# EAGLE library part PORT_EXPANSION_64_CONN (library commodore)
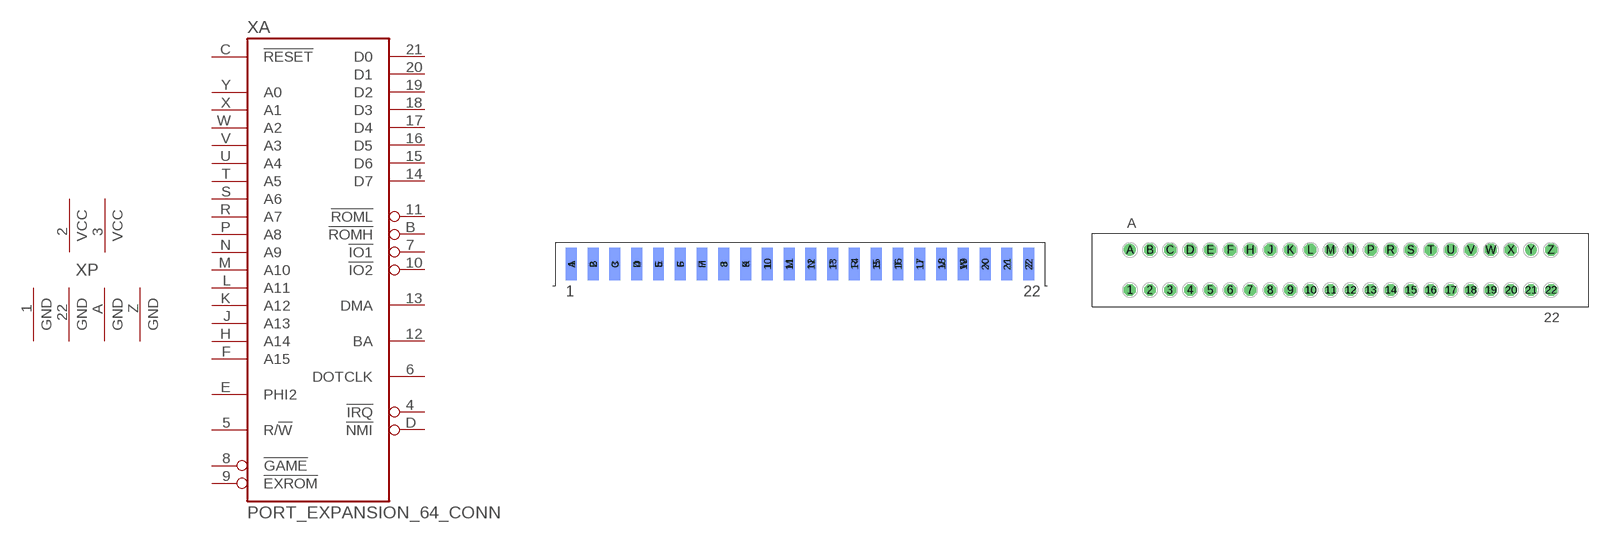
[diagram p28: symbol with the pads of MA100-22-2SHORT; footprints MA100-22-2SHORT, FE100-22-2]

Designator prefix X; gates A=PORT_EXPANSION_C64_CONN P=PWR2-GND4

## PORT_EXPANSION_64_CONNR  [MA100-22-2SHORT]
1  P:GND  pwr
2  P:VCC  pwr
3  P:VCC  pwr
4  A:!IRQ
5  A:R/!W
6  A:DOTCLK  in
7  A:!IO1  in
8  A:!GAME  in
9  A:!EXROM  in
10  A:!IO2  in
11  A:!ROML  in
12  A:BA  in
13  A:DMA
14  A:D7
15  A:D6
16  A:D5
17  A:D4
18  A:D3
19  A:D2
20  A:D1
21  A:D0
22  P:GND  pwr
A  P:GND  pwr
B  A:!ROMH  in
C  A:!RESET  in
D  A:!NMI
E  A:PHI2  in
F  A:A15
H  A:A14
J  A:A13
K  A:A12
L  A:A11
M  A:A10
N  A:A9
P  A:A8
R  A:A7
S  A:A6
T  A:A5
U  A:A4
V  A:A3
W  A:A2
X  A:A1
Y  A:A0
Z  P:GND  pwr

## PORT_EXPANSION_64_CONN  [FE100-22-2]
Pads as for MA100-22-2SHORT

## Footprint MA100-22-2SHORT (pad centres in mm)
smd 1.27 x 3.81: 1 -26.67,0; 2 -24.13,0; 3 -21.59,0; 4 -19.05,0; 5 -16.51,0; 6 -13.97,0; 7 -11.43,0; 8 -8.89,0; 9 -6.35,0; 10 -3.81,0; 11 -1.27,0; 12 1.27,0; 13 3.81,0; 14 6.35,0; 15 8.89,0; 16 11.43,0; 17 13.97,0; 18 16.51,0; 19 19.05,0; 20 21.59,0; 21 24.13,0; 22 26.67,0
smd 1.27 x 3.81 bottom: A -26.67,0; B -24.13,0; C -21.59,0; D -19.05,0; E -16.51,0; F -13.97,0; H -11.43,0; J -8.89,0; K -6.35,0; L -3.81,0; M -1.27,0; N 1.27,0; P 3.81,0; R 6.35,0; S 8.89,0; T 11.43,0; U 13.97,0; V 16.51,0; W 19.05,0; X 21.59,0; Y 24.13,0; Z 26.67,0

## Footprint FE100-22-2 (pad centres in mm)
drill 1 octagon: 1 -26.67,-2.54; 2 -24.13,-2.54; 3 -21.59,-2.54; 4 -19.05,-2.54; 5 -16.51,-2.54; 6 -13.97,-2.54; 7 -11.43,-2.54; 8 -8.89,-2.54; 9 -6.35,-2.54; 10 -3.81,-2.54; 11 -1.27,-2.54; 12 1.27,-2.54; 13 3.81,-2.54; 14 6.35,-2.54; 15 8.89,-2.54; 16 11.43,-2.54; 17 13.97,-2.54; 18 16.51,-2.54; 19 19.05,-2.54; 20 21.59,-2.54; 21 24.13,-2.54; 22 26.67,-2.54; B -24.13,2.54; C -21.59,2.54; D -19.05,2.54; E -16.51,2.54; F -13.97,2.54; H -11.43,2.54; J -8.89,2.54; K -6.35,2.54; L -3.81,2.54; M -1.27,2.54; N 1.27,2.54; P 3.81,2.54; R 6.35,2.54; S 8.89,2.54; T 11.43,2.54; U 13.97,2.54; V 16.51,2.54; W 19.05,2.54; X 21.59,2.54; Z 26.67,2.54
drill 1: A -26.67,2.54; Y 24.13,2.54